# EAGLE library part M25P16 (library st-microelectronics)
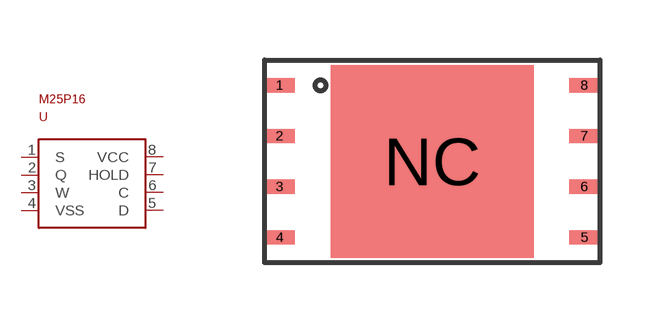
[diagram p40: symbol with the pads of VDFPN8; footprint VDFPN8]

Designator prefix -

## M25P16  [VDFPN8]
1  S
2  Q
3  W
4  VSS
5  D
6  C
7  HOLD
8  VCC

## Footprint VDFPN8 (pad centres in mm)
smd 0.762 x 0.356: 1 -3.81,1.905; 2 -3.81,0.635; 3 -3.81,-0.635; 4 -3.81,-1.905; 5 3.81,-1.905; 6 3.81,-0.635; 7 3.81,0.635; 8 3.81,1.905
smd 5.08 x 4.826: NC 0,0